# Altium footprint library 10W 3Ohm.PcbLib: 1 footprints
Each footprint in its own frame and in the unit in brackets; x right, y up, seen from the top. Pads: shape width x height; smd on the part's side, far side on the other; paste and mask are expansions set on the pad; w line width, h text height; cw(c..) or ccw(c..) is an arc to the next point about the centre after c.
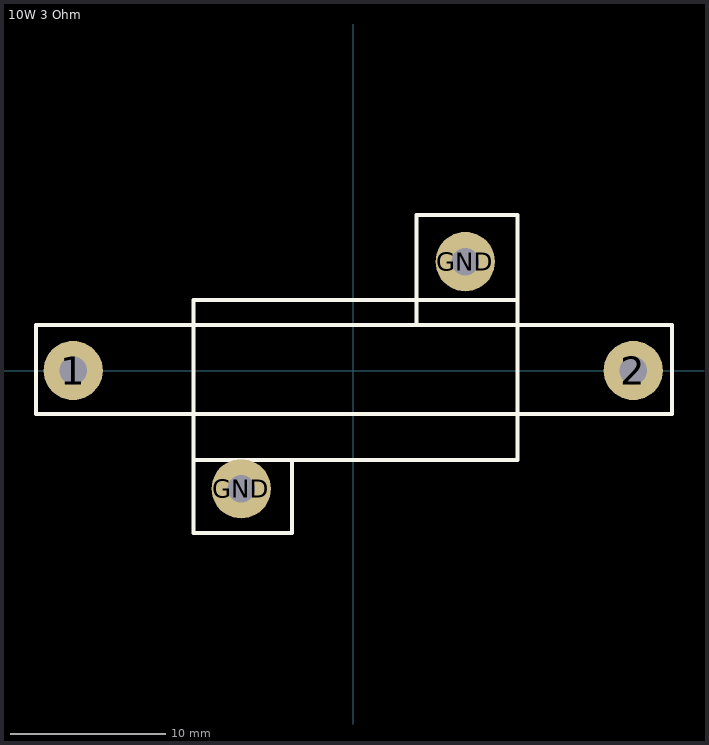
[diagram p0: the footprint, top view; thin cyan lines are the x and y axes]

## 10W 3 Ohm [mm]
pads (4):
  round 3.81 hole 1.778: 1(-18,0) 2(18,0) GND(-7.2,-7.6) GND(7.2,7)
Top Overlay:
  lines w0.254: -10.278,-5.747 10.55,-5.747 10.55,-0.921 10.55,4.54 -10.278,4.54 -10.278,-3.334 -10.278,-10.446 -3.928,-10.446 -3.928,-5.8 ; 4.073,3 4.073,10 10.55,10 10.55,2.381 ; -20.4,-2.8 20.5,-2.8 20.5,2.915 -20.4,2.915 -20.4,-2.8
3D body "HITANO 10W 3 Ohm J.STEP": height 10.59, standoff 0.59, extent -16.386,-9.85 16.4,9.85